# EAGLE library part RFM95W-915S2 (library RFM95W-915S2)
RFM95(W) - Low Power Long Range Transceiver Module V1.0 Check availability <https://pricing.snapeda.com/parts/RFM95W-915S2/RF%20Solutions/view-part?ref=eda>
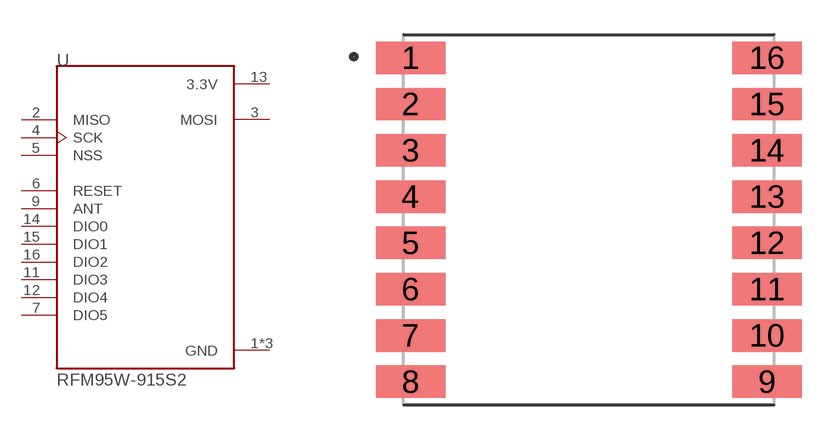
[diagram p0: symbol with the pads of XCVR_RFM95W-915S2; footprint XCVR_RFM95W-915S2]

Designator prefix U

## RFM95W-915S2 (Availability: In Stock; Description: 802.15.4 LoRa™ Transceiver Module 915MHz Antenna Not Included Surface Mount; MF: RF Solutions; MP: RFM95W-915S2; Package: Non Standard RF Solutions; Price: None; Purchase-URL: https://pricing.snapeda.com/search/part/RFM95W-915S2/?ref=eda)  [XCVR_RFM95W-915S2]
1  GND  pwr
2  MISO  in
3  MOSI  out
4  SCK  in
5  NSS  in
6  RESET
7  DIO5
8  GND  pwr
9  ANT
10  GND  pwr
11  DIO3
12  DIO4
13  3.3V  pwr
14  DIO0
15  DIO1
16  DIO2

## Footprint XCVR_RFM95W-915S2 (pad centres in mm)
smd 3 x 1.4: 1 -7.7,7; 2 -7.7,5; 3 -7.7,3; 4 -7.7,1; 5 -7.7,-1; 6 -7.7,-3; 7 -7.7,-5; 8 -7.7,-7; 9 7.7,-7; 10 7.7,-5; 11 7.7,-3; 12 7.7,-1; 13 7.7,1; 14 7.7,3; 15 7.7,5; 16 7.7,7